# Altium schematic symbol library Indutor.SchLib: 34 symbols
Pins are listed as number, name and electrical type; pins without a type are passive.

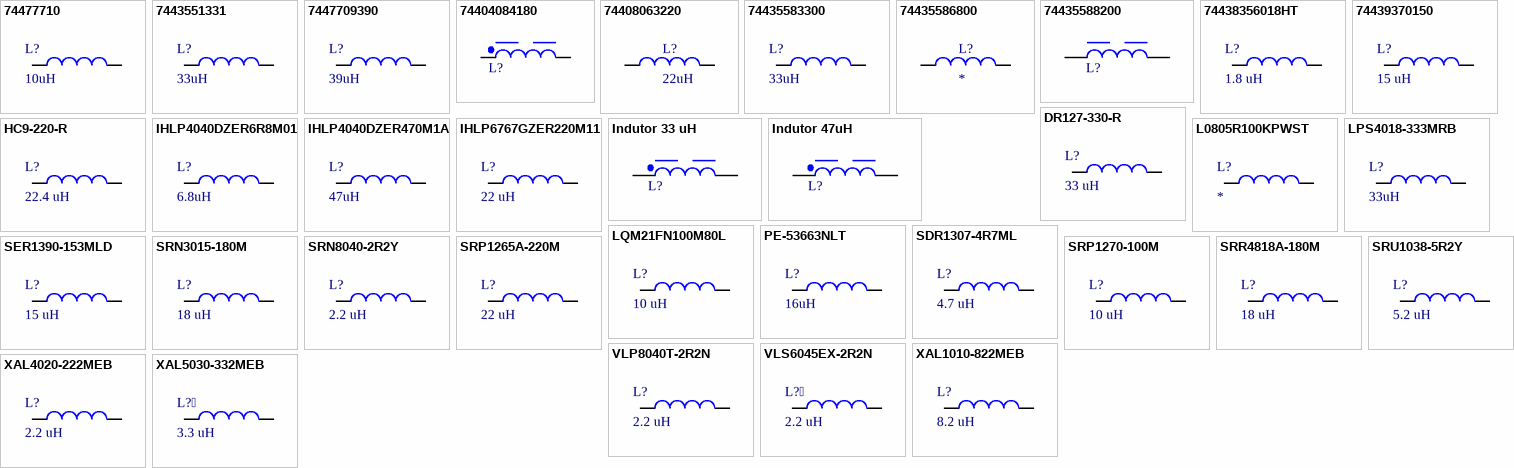
[diagram p0: symbols 74477710 to XAL5030-332MEB]

## 74477710
designator L?, comment 10uH
IND FIXED 10uH 2A 49mOHM; Manufacturer: Wurth Elektronik; Part Number: 74477710; Current Rating (Amps): 2; DC Resistance (DCR): 49 mOHMs; Frequency - Self Resonant: 26 MHz; Inductance Frequency - Test: 1kHz; Material - Core: Ferrite; Shielding: Shielded; ToleranceParameter 21: 20%; Type: Wirewound; Library Control - Checked Footprint: no; Category: Fixed Inductors; Library Ref: Inductor; Operating Temperature: -40C to +125C; Package / Case: 7.3 mm x 7.3 mm; Price: 1=2,44; 10=2,18; 100=1,95. (USD); Q @ Freq: -; Size / Dimension: 7.3mm x 7.3mm x 4.5mm (LxWxH); Supplier 1: mouser; Supplier Part Number 1: 710-74477710; Value: 10uH; Library Control - Last Project that Used: -; Library Control - Last Update: 06/06/2021 - 16:00; Library Control - Person that Checked Footprint: no; Library Control - Person that Checked Schematic: no; Library Control - Person that did the Last Update Footprint: no; Library Control - Person that did the Last Update Schematic: no; ComponentLink1Description: Datasheet; ComponentLink1URL: https://br.mouser.com/datasheet/2/445/74477710-1722886.pdf; ComponentLink2Description: Mouser link; ComponentLink2URL: https://br.mouser.com/ProductDetail/Wurth-Elektronik/74477710?qs=%2Fha2pyFadug%2FIiObFAT6jf1YalNNHp3LEEd6ZgRT95NN2CU3YglpQQ%3D%3D
footprint 7.3mm x 7.3mm
pins: 1, 2

## 7443551331
designator L?, comment 33uH
IND FIXED 33uH 5.5A 30.5 mOHM; Manufacturer: Wurth Elektronik; Part Number: 7443551331; DC Resistance (DCR): 30.5 mOHMs; Frequency - Self Resonant: 11 MHz; Inductance Frequency - Test: 1kHz; Material - Core: Ferrite; Shielding: Shielded; ToleranceParameter 21: 20%; Type: Wirewound; Category: Fixed Inductors; Current Rating (Amps): 5.5 A; Library Ref: Inductor; Operating Temperature: -40C to +125C; Package / Case: 2212; Price: 1=2,44; 10=2,18; 100=1,95. (USD); Q @ Freq: -; Size / Dimension: 7.3mm x 7.3mm x 4.5mm (LxWxH); Supplier 1: Mouser; Supplier Part Number 1: 710-7443551331; Value: 33uH; ComponentLink1Description: Datasheet; ComponentLink2Description: Mouser link; ComponentLink2URL: https://br.mouser.com/ProductDetail/Wurth-Elektronik/7443551331?qs=DCWoJ8jJgHt6VQeuWIfLZw%3D%3D; ComponentLink3Description: Datasheet; ComponentLink3URL: https://br.mouser.com/datasheet/2/445/7443551331-1721544.pdf
footprint 7443551331
pins: 1, 2

## 7447709390
designator L?, comment 39uH
IND FIXED 39uh 4.1A 56MOHM; Manufacturer: Wurth Elektronik; Part Number: 7447709390; DC Resistance (DCR): 56 mOhms; Frequency - Self Resonant: 6MH; Inductance Frequency - Test: 1 kHz; Material - Core: Ferrite; Shielding: Shielded; Category: Indutor de potência; Current Rating (Amps): 4.1 A; Library Ref: Indutores; Operating Temperature: -40 to 125°C; Package / Case: *; Packaging: *; Price: 1 = 2.57 USD, 10 = 2.35 USD, 25 = 2,34 USD; Q @ Freq: *; Size / Dimension: 12 mm x 12 mm; Supplier 1: Mouser; Supplier Part Number 1: 710-7447709390; ToleranceParameter 21: *; Type: *; Value: 39uH; Library Control - Checked Footprint: *; Library Control - Last Project that Used: *; Library Control - Last Update: *; Library Control - Person that Checked Footprint: *; Library Control - Person that Checked Schematic: *; Library Control - Person that did the Last Update Footprint: *; Library Control - Person that did the Last Update Schematic: *; ComponentLink1Description: Mouser Link; ComponentLink1URL: https://br.mouser.com/ProductDetail/Wurth-Elektronik/7447709390?qs=E%2F%2FhvbtCqpN%2FWTQofvvUSA%3D%3D; ComponentLink2Description: Datasheet; ComponentLink2URL: https://br.mouser.com/datasheet/2/445/7447709390-1722407.pdf
footprint WE-PD_1260/1245/1280/121054
pins: 1, 2

## 74404084180
designator L?, comment 18uH, 2.4A  (value not drawn)
WE-LQS SMT Power Inductor, size 8040, 18uH, 2.4A, 0.053Ohm; Manufacturer Part Number: 74404084180; Manufacturer: Wurth Elektronik; Case/Size Code: 8040; Saturation Current: 3.2A; Self Resonant Frequency: 16.5MHz; Category: Power Inductors; Match Code: WE-LQS; ComponentLink1Description: Website Link; ComponentLink1URL: https://www.we-online.com/redexpert/article/74404084180?ad; ComponentLink2Description: Datasheet Link; ComponentLink2URL: https://www.we-online.com/redexpert/spec/74404084180?ad; Mount: Surface Mount; Operating Temperature Max: 125°C; Operating Temperature Min: -40°C; Packaging: Tape and Reel; Length: 8mm; Width: 8mm; Height: 4.2mm; DC Resistance: 0.053Ohm; Inductance: 18uH; Rated Current: 2.4A
footprint WE-LQS_8040
simulation model 8040_74404084180_18u
pins: 1, 2

## 74408063220
designator L?, comment 22uH
IND FIXED 22uH 1A 220mOHM; Manufacturer: Wurth Electronics; Manufacturer Part Number: 74408063220; Self Resonant Frequency: 18MHz; Tolerance: 20%; Supplier: Mouser; Supplier Part Number: 710-74408063220; RoHS: No; Category: Fixed Inductors; Stock: 1480; Pricing: 1=1,53, 10=1,47, 50=1,41, 100=1,29, 1000=0,88, 10000=0,88 (USD); ComponentLink1Description: Mouser; ComponentLink1URL: https://br.mouser.com/ProductDetail/Wurth-Elektronik/74408063220?qs=rQFj71Wb1eUk4wES2Hgz2Q%3D%3D; ComponentLink2Description: Datasheet; ComponentLink2URL: https://www.we-online.com/components/products/datasheet/74408063220.pdf; Min Operating Temperature: - 40 C; Max Operating Temperature: + 150 C; Length: 5.9mm; Width: 5.9mm; Height: 2.85mm
footprint 74408063220 (Precision Wire Wound Inductor, 2-Leads, Body 5,90x5,90mm, IPC Medium Density)
pins: 1, 2

## 74435583300
designator L?, comment 33uH
IND FIXED 33uH 11.5A 13.2mOHM; Manufacturer: Wurth Elektronik; Part Number: 74435583300; DC Resistance (DCR): 13.2 mOHMs; Frequency - Self Resonant: 6.8 MHz; Inductance Frequency - Test: 1kHz; Material - Core: Ferrite; Shielding: Shielded; ToleranceParameter 21: 20%; Type: Wirewound; Category: Fixed Inductors; Current Rating (Amps): 11.5 A; Library Ref: Inductor; Operating Temperature: -40C to +125C; Package / Case: 2212; Price: 1=2,44; 10=2,18; 100=1,95. (USD); Q @ Freq: -; Size / Dimension: 7.3mm x 7.3mm x 4.5mm (LxWxH); Supplier 1: Mouser; Supplier Part Number 1: 710-74477710; Value: 33uH; ComponentLink1Description: Datasheet; ComponentLink2Description: Mouser link; ComponentLink2URL: https://br.mouser.com/ProductDetail/Wurth-Elektronik/74435583300?qs=BXmE%252BJ0Y7xZq0XIyjXqmfw%3D%3D; ComponentLink3Description: Datasheet; ComponentLink3URL: https://br.mouser.com/datasheet/2/445/74435583300-1721625.pdf
footprint 74435583300
pins: 1, 2

## 74435586800
designator L?
IND FIXED 68uH 7.5A 27.3mOHM; Manufacturer: Wurth Electronics; Manufacturer Part Number: 74435586800; Description: General Purpose Inductor, 68uH, 20%, 1 Element, SMD, 8987; Tolerance: 20%; DC Resistance (DCR): 27.3mR; Inductor Application: HIGH CURRENT INDUCTOR; Inductor Type: GENERAL PURPOSE INDUCTOR; Channels: 1; Shape/Size Description: RECTANGULAR PACKAGE; Shielding: Unshielded; Case/Size Code: 8987; Self Resonant Frequency: 5MHz; Test Frequency: 100kHz; Supplier: Digikey; Supplier Part Number: 732-4240-1-ND; RoHS: Yes; Category: Fixed Inductors; Stock: 1609; Pricing: 1=7,34, 10=7,2, 50=6,37 (USD); Pins: 2; Min Operating Temperature: -40°C; Max Operating Temperature: 125°C; Inductance-Nom (L): 68uH; Manufacturer Series: 74435586800; Package Style: SMTMeter; Max Current Rating: 7.5A; Surface Mount: Yes; Terminal Placement: Dual Ended; Termination: Wraparound; Reach SVHC Compliant: Yes; RoHS Compliant: Yes; ComponentLink1URL: https://datasheet.ciiva.com:443/pdfs/VipMasterIC/IC/MIDC/MIDC-S-A0008052226/MIDC-S-A0007982573-1.pdf?src-supplier=IHS+Markit; ComponentLink1Description: https://datasheet.ciiva.com:443/pdfs/VipMasterIC/IC/MIDC/MIDC-S-A0008052226/MIDC-S-A0007982573-1.pdf?src-supplier=IHS+Markit; ComponentLink2URL: https://datasheet.ciiva.com/6699/74435586800-6699792.pdf?src-supplier=Digikey; ComponentLink2Description: https://datasheet.ciiva.com/6699/74435586800-6699792.pdf?src-supplier=Digikey; ComponentLink3URL: https://datasheet.ciiva.com/23782/1668079-23782520.pdf?src-supplier=Newark; ComponentLink3Description: https://datasheet.ciiva.com/23782/1668079-23782520.pdf?src-supplier=Newark; ComponentLink4URL: https://datasheet.ciiva.com/25607/0900766b811a4283-25607349.pdf?src-supplier=Rs; ComponentLink4Description: https://datasheet.ciiva.com/25607/0900766b811a4283-25607349.pdf?src-supplier=Rs; ComponentLink5URL: https://datasheet.ciiva.com/7765/1735789-7765137.pdf?src-supplier=Element14; ComponentLink5Description: https://datasheet.ciiva.com/7765/1735789-7765137.pdf?src-supplier=Element14; ComponentLink6URL: https://datasheet.ciiva.com/13276/74435586800-13276988.pdf?src-supplier=Mouser; ComponentLink6Description: https://datasheet.ciiva.com/13276/74435586800-13276988.pdf?src-supplier=Mouser; ComponentLink7URL: https://datasheet.ciiva.com/26308/74435586800-eng-tds-26308619.pdf?src-supplier=Distrelec; ComponentLink7Description: https://datasheet.ciiva.com/26308/74435586800-eng-tds-26308619.pdf?src-supplier=Distrelec
footprint WE-HCI_2212 (SMT Flat Wire High Current Inductor, body 22x22.5mm)
pins: 1, 2

## 74435588200
designator L?, comment 82µH, 6.6A  (value not drawn)
WE-HCI SMT Flat Wire High Current Inductor, size 2212, 82µH, 6.6A, 30.4mΩ; Manufacturer Part Number: 74435588200; Manufacturer: Wurth Elektronik; Case/Size Code: 2212; Material: MnZn; Saturation Current: 8.5A; Self Resonant Frequency: 4.4MHz; Category: Shielded Power Inductors; Match Code: WE-HCI; ComponentLink1Description: Website Link; ComponentLink1URL: https://www.we-online.com/redexpert/article/74435588200?ad; ComponentLink2Description: Datasheet Link; ComponentLink2URL: https://www.we-online.com/redexpert/spec/74435588200?ad; Mount: Surface Mount; Operating Temperature Max: 125°C; Operating Temperature Min: -40°C; Packaging: Tape and Reel; Length: 22mm; Width: 22.5mm; Height: 12mm; DC Resistance: 30.4mΩ; Inductance: 82µH; Performance Rated Current: 6.6A
footprint WE-HCI_2212
simulation model 2212_74435588200_82u
pins: 1, 2

## 74438356018HT
designator L?, comment 1.8 uH
IND FIXED 1.8uH 4.6A 29.9mOHM; Manufacturer: Wurth Elektronik; Part Number: 74438356018HT; DC Resistance (DCR): 29.9 mOhms; Frequency - Self Resonant: 37.5 MHz; Inductance Frequency - Test: 100kHz; Material - Core: Magnetic Iron Alloy Core; Shielding: Shielded; Tolerance: 20%; Library Control - Checked Footprint: Yes; Library Control - Person that Checked Footprint: Stéfany (Ster); Library Control - Person that did the Last Update Footprint: Maria Laura; Category: Fixed Inductors; Current Rating (Amps): 4.6A; Library Ref: Inductor; Operating Temperature: -55°C~150°C; Package / Case: 4020; Price: 1=2,03, 10=1,84 100 = 1,69 (USD); Q @ Freq: -; Size / Dimension: 4,1 L x 4,1 W x 2,1 H (mm); Supplier 1: Mouser; Supplier Part Number 1: 710-74438356018HT; Type: Fixed; Value: 1.8 uH; Library Control - Last Project that Used: -; Library Control - Last Update: 18/07/2021 15:26; Library Control - Person that Checked Schematic: Stéfany (Ster); Library Control - Person that did the Last Update Schematic: Maria Laura; ComponentLink1Description: Datasheet; ComponentLink1URL: https://br.mouser.com/datasheet/2/445/74438356018HT-1759656.pdf; ComponentLink2Description: Mouser Link; ComponentLink2URL: https://br.mouser.com/ProductDetail/Wurth-Elektronik/74438356018HT?qs=YwPsRIUVAOd%2FxZngiNnH6Q%3D%3D
footprint 4,1MM X 4,1MM (Inductor)
pins: 1, 2

## 74439370150
designator L?, comment 15 uH
IND FIXED 15uH 10A 11.3mOHM; Manufacturer: Wurth Elektronik; Part Number: 74439370150; Frequency - Self Resonant: 7 MHz; Inductance Frequency - Test: 100 kHz; Material - Core: Metal Composite; Shielding: Shielded; ToleranceParameter 21: 20%; Type: Wirewound; Library Control - Checked Footprint: Yes; Library Control - Person that Checked Footprint: Pierre; Library Control - Person that did the Last Update Footprint: no; Category: Fixed Inductors; Current Rating (Amps): 10 A; DC Resistance (DCR): 11.3 mOHM; Library Ref: Inductor; Operating Temperature: -40C ~ +125C; Package / Case: SMD/SMT; Price: 1=6,77000, 50=6,16000, 100=4,57000 (USD); Q @ Freq: -; Size / Dimension: 16.4mm x 15.4mm x 10mm (LxWxH); Supplier 1: Mouser; Supplier Part Number 1: 710-74439370150; Value: 15 uH; Library Control - Last Project that Used: -; Library Control - Last Update: 22/06/2021  - 18:15; Library Control - Person that Checked Schematic: Pierre; Library Control - Person that did the Last Update Schematic: no; ComponentLink1Description: Datasheet; ComponentLink1URL: https://br.mouser.com/datasheet/2/445/74439370150-1721936.pdf; ComponentLink2Description: Mouser link; ComponentLink2URL: https://br.mouser.com/ProductDetail/Wurth-Elektronik/74439370150/?qs=%2Fha2pyFadugkr4QWgN4ssLJ1UxIZieGfMEENVnKExILNH5syg3lpmg%3D%3D
footprint 16.4mm x 16.4mm
pins: 1, 2

## DR127-330-R
designator L?, comment 33 uH
IND FIXED 33uH 3.23A 60mOHM; Manufacturer: Eaton; Part Number: DR127-330-R; DC Resistance (DCR): 60 mOhms; Inductance Frequency - Test: 100 kHz; Material - Core: Ferrite; Shielding: Shielded; Tolerance: 20 %; Library Control - Checked Footprint: Yes; Library Control - Person that Checked Footprint: Raquel; Library Control - Person that did the Last Update Footprint: Dimas; Category: Fixed Inductors; Current Rating (Amps): 3.23 A; Frequency - Self Resonant: -; Library Ref: Inductor; Operating Temperature: - 40C ~ 125C; Package / Case: SMD/SMT; Price: 1=1,28, 10=0,96, 100=0,911 (USD); Q @ Freq: -; Size / Dimension: 12.5 mm x  12.5 mm x 8 mm; Supplier 1: Mouser; Supplier Part Number 1: 704-DR127-330-R; Type: Fixed; Value: 33 uH; Library Control - Last Project that Used: -; Library Control - Last Update: 16/06/21; Library Control - Person that Checked Schematic: Raquel; Library Control - Person that did the Last Update Schematic: Dimas; ComponentLink1Description: Datasheet; ComponentLink1URL: https://br.mouser.com/datasheet/2/87/eaton-dr-high-power-density-high-efficiency-shield-1608690.pdf; ComponentLink2Description: Mouser Link; ComponentLink2URL: https://br.mouser.com/ProductDetail/Coiltronics-Eaton/DR127-330-R?qs=%2Fha2pyFaduibyE8ijV25CzFnVpHY77HB7JSH9AQHtlPBOlouqoTMaA%3D%3D
footprint DR127
pins: 1, 2

## HC9-220-R
designator L?, comment 22.4 uH
IND FIXED 22uh 6.3A 25.7MOHM; Manufacturer: Eaton; Part Number: HC9-220-R; DC Resistance (DCR): 25.7 mOhms; Inductance Frequency - Test: 100kHz; Material - Core: Iron Powder; Shielding: Unshielded; Tolerance: 15 %; Library Control - Checked Footprint: Yes; Library Control - Person that Checked Footprint: Pierre; Library Control - Person that did the Last Update Schematic: Dimas; Category: Fixed Inductors; Current Rating (Amps): 6.3 A; Frequency - Self Resonant: -; Library Ref: Inductor; Operating Temperature: - 40 C ~ 155 C; Package / Case: SMD/SMT; Price: 1=3,89000, 10=2,90000, 100=2,56000 (USD); Q @ Freq: -; Size / Dimension: 14.1 mm x  13.1 mm x 7.5 mm; Supplier 1: Mouser; Supplier Part Number 1: 704-HC9-220-R; Type: Fixed; Value: 22.4 uH; Library Control - Last Project that Used: -; Library Control - Last Update: 22/06/2021 18:10; Library Control - Person that Checked Schematic: Pierre; Library Control - Person that did the Last Update Footprint: -; ComponentLink1Description: Datasheet; ComponentLink1URL: https://br.mouser.com/datasheet/2/87/eaton-hc9-high-current-power-inductors-data-sheet-1608634.pdf; ComponentLink2Description: Mouser Link; ComponentLink2URL: https://br.mouser.com/ProductDetail/Coiltronics-Eaton/HC9-220-R/?qs=%2Fha2pyFaduhYBM4C2c7hGbAv%2FTYfQVRGGe9o6YFSKrY%3D
footprint HC9 (Precision Wire Wound Inductor, 2-Leads, Body 13.10x13.40mm, IPC Medium Density)
pins: 1, 2

## IHLP4040DZER6R8M01
designator L?, comment 6.8uH
IND FIXED 6.8uH 8A 23.3 mOhms; Manufacturer: Vishay / Dale; Part Number: IHLP4040DZER6R8M01; Inductance Frequency - Test: 1 MHz; Material - Core: Composite; Shielding: Shielded; Tolerance: 20%; Type: Molded; Library Control - Checked Footprint: Yes; Library Control - Person that Checked Footprint: Tico Liro; Category: Fixed Inductors; Current Rating (Amps): 8A; DC Resistance (DCR): 23.3mOhms; Frequency - Self Resonant: -; Library Ref: Inductor; Operating Temperature: - 55 C ~ 125 C; Package / Case: SMD/SMT; Price: 1=1.56, 100=1.05 (USD); Q @ Freq: -; Size / Dimension: 10.16mm x 10.16mm x 4mm; Supplier 1: Mouser; Supplier Part Number 1: 70-IHLP4040DZER6R8M0; Value: 6.8uH; Library Control - Last Project that Used: -; Library Control - Last Update: 27/09/2021; Library Control - Person that Checked Schematic: Tico Liro; Library Control - Person that did the Last Update Footprint: -; Library Control - Person that did the Last Update Schematic: Tico Liro; ComponentLink1Description: Datasheet; ComponentLink1URL: https://br.mouser.com/datasheet/2/427/VISH_S_A0011038663_1-2571620.pdf; ComponentLink2Description: Mouser Link; ComponentLink2URL: https://br.mouser.com/ProductDetail/Vishay-Dale/IHLP4040DZER6R8M01?qs=%2Fha2pyFaduhfnAszweRolDz7r1EvsmKDTyT9A7im0paT%2F5HtU9HVrS3OHYnypq%252BO
footprint 10.16mm x 10.16mm (Precision Wire Wound Inductor, 2-Leads, Body 10,15x10,15mm, IPC Medium Density)
pins: 1, 2

## IHLP4040DZER470M1A
designator L?, comment 47uH
IND FIXED 47uh 3.3A 145MOHM; Manufacturer: Vishay; Part Number: IHLP4040DZER470M1A; DC Resistance (DCR): 145 mOhms; Inductance Frequency - Test: 100 kHz; Material - Core: Composite; Shielding: Shielded construction; Tolerance: 20%; Library Control - Person that did the Last Update Schematic: Dimas; Category: Fixed Inductors; Current Rating (Amps): 3.3 A; Frequency - Self Resonant: -; Library Ref: Inductor; Operating Temperature: - 55 C ~ 125 C; Package / Case: SMD/SMT; Price: 1=2,17, 10=1,82, 100=1,25 (USD); Q @ Freq: -; Size / Dimension: 10.16 mm x 10.16 mm x 4 mm; Supplier 1: Mouser; Supplier Part Number 1: 70-IHLP4040DZR470M1A; Type: Fixed; Value: 47uH; Library Control - Checked Footprint: -; Library Control - Last Project that Used: -; Library Control - Last Update: 05/06/2021 17:30; Library Control - Person that Checked Footprint: -; Library Control - Person that Checked Schematic: -; Library Control - Person that did the Last Update Footprint: *; ComponentLink1Description: Mouser Link; ComponentLink1URL: https://br.mouser.com/ProductDetail/Vishay-Dale/IHLP4040DZER470M1A?qs=ESCNxI3zhROX81TVptwlzQ%3D%3D; ComponentLink2Description: Datasheet; ComponentLink2URL: https://br.mouser.com/datasheet/2/427/lp40dz1a-1762908.pdf
footprint IHLP4040
pins: 1, 2

## IHLP6767GZER220M11
designator L?, comment 22 uH
IND FIXED 22uH 12A 20MOHM; Manufacturer: Vishay / Dale; Part Number: IHLP6767GZER220M11; DC Resistance (DCR): 20 mOhms; Frequency - Self Resonant: 4.3 MHz; Inductance Frequency - Test: 100 kHz; Material - Core: Composite; Shielding: Shielded; Type: Wirewound; Category: Fixed Inductors; Current Rating (Amps): 12 A; Library Ref: Inductor; Operating Temperature: -55C ~ +125C; Package / Case: 17.15 mm x 7 mm x 17.15 mm; Price: 1= 3,73, 10= 2,86, 100= 2,45 (USD); Q @ Freq: -; Size / Dimension: 17.5mm x 17.5mm x 7mm (LxWxH); Supplier 1: Mouser; Supplier Part Number 1: 70-IHLP6767GZER220M1; Value: 22 uH; Library Control - Checked Footprint: *; Library Control - Last Project that Used: *; Library Control - Last Update: *; Library Control - Person that Checked Footprint: *; Library Control - Person that Checked Schematic: *; Library Control - Person that did the Last Update Footprint: *; Library Control - Person that did the Last Update Schematic: *; ComponentLink1Description: Mouser Link; ComponentLink1URL: https://br.mouser.com/ProductDetail/Vishay-Dale/IHLP6767GZER220M11?qs=%2Fha2pyFadug37ZxLzQMB%252BpPgol1t36S5jOejw2tNlGIg39T7DOsZrkYQUDnK%2F%252Bmq; ComponentLink2Description: Datasheet; ComponentLink2URL: https://br.mouser.com/datasheet/2/427/ihlp-6767gz-11-1763084.pdf
footprint INDP171172X70N (Precision Wire Wound Inductor, 2-Leads, Body 17,13x17,15mm, IPC Medium Density)
pins: 1, 2

## Indutor 33 uH
designator L?, comment 33uH, 2.5A  (value not drawn)
WE-PD SMT Power Inductor, size 1050P, 33uH, 2.5A, 79mOhm; Manufacturer Part Number: 7447714330; Manufacturer: Wurth Elektronik; DC Resistance: 66mOhm; Saturation Current: 2.9A; Self Resonant Frequency: 11.1MHz; Type: Performance; Category: Power Inductors; Match Code: WE-PD; ComponentLink1Description: Website Link; ComponentLink1URL: https://www.we-online.com/redexpert/article/7447714330?ad; ComponentLink2Description: Datasheet Link; ComponentLink2URL: https://www.we-online.com/redexpert/spec/7447714330?ad; Mount: Surface Mount; Operating Temperature Max: 150°C; Operating Temperature Min: -40°C; Packaging: Tape and Reel; Case/Size Code: 1050P; Length: 10mm; Width: 10mm; Height: 5mm; DC Resistance Max: 79mOhm; Inductance: 33uH; Rated Current: 2.5A
footprint WE-PD_1050P
pins: 1, 2

## Indutor 47uH
designator L?, comment 47uH, 1.2A  (value not drawn)
WE-PD SMT Power Inductor, size 1030P, 47uH, 1.2A, 248mOhm; Manufacturer Part Number: 7447713470; Manufacturer: Wurth Elektronik; DC Resistance: 207mOhm; Saturation Current: 1.9A; Self Resonant Frequency: 11.4MHz; Type: Performance; Category: Power Inductors; Match Code: WE-PD; ComponentLink1Description: Website Link; ComponentLink1URL: https://www.we-online.com/redexpert/article/7447713470?ad; ComponentLink2Description: Datasheet Link; ComponentLink2URL: https://www.we-online.com/redexpert/spec/7447713470?ad; Mount: Surface Mount; Operating Temperature Max: 150°C; Operating Temperature Min: -40°C; Packaging: Tape and Reel; Case/Size Code: 1030P; Length: 10mm; Width: 10mm; Height: 3mm; DC Resistance Max: 248mOhm; Inductance: 47uH; Rated Current: 1.2A
footprint I_1030P (SMD Shielded Power Inductor, 2-leads, body 10x10mm)
pins: 1, 2

## L0805R100KPWST
designator L?
IND FIXED V 10uH 100mA 500 mOhms; Manufacturer: KEMET; Part Number: L0805R100KPWST; Frequency - Self Resonant: 32 MHz; Inductance Frequency - Test: 2.52 MHz; Shielding: Shielded; ToleranceParameter 21: 10%; Type: Wirewound; Library Control - Checked Footprint: Yes; Library Control - Person that Checked Footprint: Cage; Library Control - Person that did the Last Update Footprint: Lazanha; Category: Fixed Inductors; Current Rating (Amps): 100 mA; DC Resistance (DCR): 500 mOhms; Library Ref: Inductor; Material - Core: *; Operating Temperature: -40°C ~+105°C; Package / Case: 0805 (2012 metric); Price: 1=0.25, 10=0.166, 100=0.139 (USD); Q @ Freq: -; Size / Dimension: 2mm x 1.25mm x 1.25mm; Supplier 1: Mouser; Supplier Part Number 1: 80-L0805R100KPWST; Value: *; Library Control - Last Project that Used: Yes; Library Control - Last Update: 14/08/2022; Library Control - Person that Checked Schematic: Cage; Library Control - Person that did the Last Update Schematic: Cage; ComponentLink1Description: Mouser; ComponentLink1URL: https://br.mouser.com/ProductDetail/KEMET/L0805R100KPWST?qs=e0j0OS9oV9oaMJcS95taDg%3D%3D; ComponentLink2Description: Datasheet; ComponentLink2URL: https://br.mouser.com/datasheet/2/212/F3115-1104303.pdf
footprint 0805in (2012mm) (Chip Inductor, 2-Leads, Body 2,00x1,25mm, IPC Medium Density)
pins: 1, 2

## LPS4018-333MRB
designator L?, comment 33uH
IND FIXED 33uH 800mA 420mOHM; Manufacturer: Coilcraft; Part Number: LPS4018-333MRB; Frequency - Self Resonant: 20MHz; Inductance Frequency - Test: 100kHz; Material - Core: Ferrite; Shielding: Shielded; ToleranceParameter 21: 20%; Type: Core Drum; Library Control - Checked Footprint: no; Category: Fixed Inductors; Current Rating (Amps): 800 mA; DC Resistance (DCR): 420 mOHM; Library Ref: Inductor; Operating Temperature: -40C to +125C; Package / Case: 1515 (4040 metric); Price: 1=1,08; 10=0,904; 50=0,89. (USD); Q @ Freq: -; Size / Dimension: 4mm x 4mm x 1.8mm (LxWxH); Supplier 1: mouser; Supplier Part Number 1: 994-LPS4018-333MRB; Value: 33uH; Library Control - Last Project that Used: -; Library Control - Last Update: 06/06/2021 - 17:00; Library Control - Person that Checked Footprint: no; Library Control - Person that Checked Schematic: no; Library Control - Person that did the Last Update Footprint: no; Library Control - Person that did the Last Update Schematic: no; ComponentLink1Description: Datasheet; ComponentLink1URL: https://br.mouser.com/datasheet/2/597/lps4018-270702.pdf; ComponentLink2Description: Mouser link; ComponentLink2URL: https://br.mouser.com/ProductDetail/Coilcraft/LPS4018-333MRB/?qs=%2Fha2pyFaduhCRNUHDL7ZiqyXTJbo4ywUXgs7BQe9sCWogmbxCa86r%2FlcVeZGQbil
footprint 1515 (4040 metric)
pins: 1, 2

## LQM21FN100M80L
designator L?, comment 10 uH
IND FIXED 10uH 100mA 300mOHM; Manufacturer: Murata; Part Number: LQM21FN100M80L; Current Rating (Amps): 100m; Frequency - Self Resonant: 15MHz; Inductance Frequency - Test: 1MHz; Material - Core: Ferrite; Shielding: Shielded; ToleranceParameter 21: 20%; Type: Multilayer; Library Control - Checked Footprint: Yes; Library Control - Person that Checked Footprint: Raquel; Library Control - Person that did the Last Update Footprint: Lucas; Category: Fixed Inductors; DC Resistance (DCR): 300m OHM; Library Ref: Inductor; Operating Temperature: -55C ~ 125C; Package / Case: 0805in (2012mm); Price: 1=0,19; 10=0,168; 100=0,112. (USD); Q @ Freq: -; Size / Dimension: 2mm x 1.25mm x 1.25mm (LxWxH); Supplier 1: Mouser; Supplier Part Number 1: 81-LQM21FN100M80L; Value: 10 uH; Library Control - Last Project that Used: -; Library Control - Last Update: 16/06/21; Library Control - Person that Checked Schematic: Raquel; Library Control - Person that did the Last Update Schematic: Lucas; ComponentLink1Description: Datasheet; ComponentLink1URL: https://br.mouser.com/datasheet/2/281/JELF243B-0017-1699577.pdf; ComponentLink2Description: Mouser link; ComponentLink2URL: https://br.mouser.com/ProductDetail/Murata-Electronics/LQM21FN100M80L?qs=sGAEpiMZZMsg%252By3WlYCkU9oBvn8kICtv4tmZpaHyey8%3D
footprint 0805in (2012mm)
pins: 1, 2

## PE-53663NLT
designator L?, comment 16uH
IND FIXED 16uH 7.2A 18.7 mOhms; Manufacturer: Pulse Electronics; Part Number: PE-53663NLT; Inductance Frequency - Test: 1 MHz; Material - Core: Composite; Shielding: Shielded; Tolerance: 20%; Type: Molded; Library Control - Checked Footprint: Yes; Library Control - Person that Checked Footprint: Tico Liro; Category: Fixed Inductors; Current Rating (Amps): 7.2A; DC Resistance (DCR): 18.7 mOhms; Frequency - Self Resonant: -; Library Ref: Inductor; Operating Temperature: - 40 C ~ 130 C; Package / Case: SMD/SMT; Price: 1=2,57, 100=2.16 (USD); Q @ Freq: -; Size / Dimension: 17,78mm x 17,02mm x 9x91mm; Supplier 1: Mouser; Supplier Part Number 1: 673-PE-53663NLT; Value: 16uH; Library Control - Last Project that Used: -; Library Control - Last Update: 27/09/2021; Library Control - Person that Checked Schematic: Tico Liro; Library Control - Person that did the Last Update Footprint: -; Library Control - Person that did the Last Update Schematic: Tico Liro; ComponentLink1Description: Datasheet; ComponentLink1URL: https://br.mouser.com/datasheet/2/336/SPM2007_44-1527070.pdf; ComponentLink2Description: Mouser Link; ComponentLink2URL: https://br.mouser.com/ProductDetail/Pulse-Electronics/PE-53663NLT?qs=%2Fha2pyFaduiKnLi%252BxXX632ORpob8zCazFVNI6q96CX%2FHUHmZzctulw%3D%3D
footprint 17.78mm x 17.02mm x 9.91mm (Precision Wire Wound Inductor, 2-Leads, Body 17,01x17,78mm, IPC Medium Density)
pins: 1, 2

## SDR1307-4R7ML
designator L?, comment 4.7 uH
IND FIXED 4.7uH 7A 10 mOhms; Manufacturer: Bourns; Part Number: SDR1307-4R7ML; Frequency - Self Resonant: 36 MHz; Inductance Frequency - Test: 7.96 MHz; Material - Core: Ferrite; Q @ Freq: .; Shielding: Shielded; ToleranceParameter 21: 20%; Type: Wirewound; Library Control - Checked Footprint: Yes; Library Control - Person that Checked Footprint: Cage; Category: Fixed Inductor; Current Rating (Amps): 7 A; DC Resistance (DCR): 10 mOhms; Library Ref: Inductor; Operating Temperature: -40 C~+125 C; Package / Case: 7mm L x 13mm D; Price: 1=1.16,  10=0.865, 100=0.781 (USD); Size / Dimension: 7mm L x 13mm D; Supplier 1: Mouser; Supplier Part Number 1: 652-SDR1307-4R7ML; Value: 4.7 uH; Library Control - Last Project that Used: Yes; Library Control - Last Update: 27/08/2022; Library Control - Person that Checked Schematic: Cage; Library Control - Person that did the Last Update Footprint: Cage; Library Control - Person that did the Last Update Schematic: Cage; ComponentLink1Description: Mouser; ComponentLink1URL: https://br.mouser.com/ProductDetail/Bourns/SDR1307-4R7ML?qs=uD%2FoUDWqfvTph9Rfuyszgg%3D%3D; ComponentLink2Description: Datasheet; ComponentLink2URL: https://br.mouser.com/datasheet/2/54/sdr1307-1391244.pdf
footprint SDR1307-4R7ML
pins: 1, 2

## SER1390-153MLD
designator L?, comment 15 uH
IND FIXED 15uH 9.2A 15mOHM; Manufacturer: Coilcraft; Part Number: SER1390-153MLD; Frequency - Self Resonant: 24,3MHz; Inductance Frequency - Test: 100kHz; Material - Core: Ferrite; Shielding: Shielded; ToleranceParameter 21: 20%; Type: Fixed Inductors; Library Control - Last Project that Used: Fuijin-MK1; Library Control - Person that Checked Footprint: Guilherme; Category: Fixed Inductors; Current Rating (Amps): 9.2A; DC Resistance (DCR): 15 mOHM; Library Ref: Inductor; Operating Temperature: -40°C ~ 85°C; Package / Case: 12.7 mm x 9 mm x 12.6 mm; Price: 1=2,85, 10=2,54, 100=2,04 (USD); Q @ Freq: -; Size / Dimension: 13,7 mm L x 13,7 mm W x 7 mm H; Supplier 1: Mouser; Supplier Part Number 1: 994-SER1390-153MLD; Value: 15 uH; Library Control - Last Update: 31/10/21 16:55; Library Control - Person that Checked Schematic: Guilherme; Library Control - Person that did the Last Update Footprint: Guilherme; Library Control - Person that did the Last Update Schematic: Guilherme; ComponentLink1Description: Datasheet; ComponentLink1URL: https://br.mouser.com/ProductDetail/Coilcraft/SER1390-153MLD?qs=%2Fha2pyFaduhid6vbnMdLhouLl0l8EuZMad6E4Hshsfrl9tlr%2FPnIfQ%3D%3D; ComponentLink2Description: Mouser link; ComponentLink2URL: https://br.mouser.com/datasheet/2/597/ser1390-471319.pdf
footprint SER1390153MLB
pins: 1, 2

## SRN3015-180M
designator L?, comment 18 uH
IND FIXED 18uH 650mA 546mOHM; Manufacturer: Bourns; Part Number: SRN3015-180M; DC Resistance (DCR): 546mOhms; Frequency - Self Resonant: 30 MHz; Inductance Frequency - Test: 2.52 MHz; Material - Core: Ferrite; Shielding: Semi-Shielded; Tolerance: 20%; Library Control - Person that did the Last Update Footprint: Maria Laura; Category: Fixed Inductors; Current Rating (Amps): 650mA; Library Ref: Inductor; Operating Temperature: -40°C~125°C; Package / Case: 3015; Price: 1=0,51, 10=0,354 100 =0,318  (USD); Q @ Freq: -; Size / Dimension: 3,0 L x 3,0 W x 1,5 H (mm); Supplier 1: Mouser; Supplier Part Number 1: 652-SRN3015-180M; Type: Fixed; Value: 18 uH; Library Control - Last Project that Used: -; Library Control - Last Update: 09/09/2021 10:30; Library Control - Person that did the Last Update Schematic: Maria Laura; ComponentLink1Description: Datasheet; ComponentLink1URL: https://br.mouser.com/datasheet/2/54/srn3015-1391515.pdf; ComponentLink2Description: Mouser Link; ComponentLink2URL: https://br.mouser.com/ProductDetail/Bourns/SRN3015-180M?qs=opBjA1TV902azA9NHn1OBg%3D%3D
footprint 3MM X 3MM
pins: 1, 2

## SRN8040-2R2Y
designator L?, comment 2.2 uH
IND FIXED 2.2uH 6.3A 13mOHM; Manufacturer: Bourns; Part Number: SRN8040-2R2Y; DC Resistance (DCR): 13 mOhms; Frequency - Self Resonant: 40 MHz; Inductance Frequency - Test: 7.96 MHz; Material - Core: Ferrite; Q @ Freq: 13; Shielding: Semi - Shielded; Tolerance: 30%; Type: Wirewound; Library Control - Checked Footprint: No; Library Control - Person that did the Last Update Footprint: Marcos; Category: Fixed Inductors; Current Rating (Amps): 6.3A; Library Ref: Inductor; Operating Temperature: - 40 C ~ 105 C; Package / Case: 8 mm x 8 mm; Price: 1=0,78, 10=0,54 100 = 0,484 (USD); Size / Dimension: 8 mm L x 8 mm W x 4 mm H; Supplier 1: Mouser; Supplier Part Number 1: 652-SRN8040-2R2Y; Value: 2.2 uH; Library Control - Last Project that Used: -; Library Control - Last Update: 18/07/2021 15:26; Library Control - Person that Checked Footprint: -; Library Control - Person that Checked Schematic: -; Library Control - Person that did the Last Update Schematic: Marcos; ComponentLink1Description: Datasheet; ComponentLink1URL: https://www.mouser.com/datasheet/2/54/SRN8040-1391517.pdf; ComponentLink2Description: Mouser Link; ComponentLink2URL: https://www.mouser.com/ProductDetail/Bourns/SRN8040-2R2Y?qs=%2Fha2pyFadujHc60IgsuR%252BzZaoplVp2OUZxeFj6HEWw%252BOw5KyXJYiVA%3D%3D
footprint 8 mm x 8 mm
pins: 1, 2

## SRP1265A-220M
designator L?, comment 22 uH
IND FIXED 22uH 12A 37mOhm; Manufacturer: Bourns; Part Number: SRP1265A-220M; Frequency - Self Resonant: 6 MHz; Inductance Frequency - Test: 100 kHz; Material - Core: Ferrite; Shielding: Shielded; Tolerance: 20%; Type: Wirewound; Library Control - Checked Footprint: Pierre; Category: Fixed Inductors; Current Rating (Amps): 12 A; DC Resistance (DCR): 37 mOhm; Library Ref: Inductor; Operating Temperature: -40 C~150 C; Package / Case: 500 pcs. per 13-inch reel; Price: 1= 2,14, 10= 1,98, 25= 1,67 (USD); Q @ Freq: -; Size / Dimension: 13.5 x 12.5 x 6.2 (; Supplier 1: Mouser; Supplier Part Number 1: 652-SRP1265A-220M; Value: 22 uH; Library Control - Last Project that Used: *; Library Control - Last Update: 27/11/2021 - 00:30; Library Control - Person that Checked Footprint: *; Library Control - Person that Checked Schematic: *; Library Control - Person that did the Last Update Footprint: *; Library Control - Person that did the Last Update Schematic: *; ComponentLink1Description: Mouser Link; ComponentLink1URL: https://br.mouser.com/ProductDetail/Bourns/SRP1265A-220M?qs=7z%252BmIopC6%2FIUC8RczBuOGQ%3D%3D; ComponentLink2Description: Datasheet; ComponentLink2URL: https://br.mouser.com/datasheet/2/54/srp1265a-1391487.pdf
footprint 13.5mm x 12.5mm (Precision Wire Wound Inductor, 2-Leads, Body 13,50x12,50mm, IPC Medium Density)
pins: 1, 2

## SRP1270-100M
designator L?, comment 10 uH
IND FIXED 10uH 10A 16,8mOHM; Manufacturer: Bourns; Part Number: SRP1270-100M; Frequency - Self Resonant: 10MHz; Inductance Frequency - Test: 100kHz; Material - Core: Ferrite; Shielding: Shielded; ToleranceParameter 21: 20%; Type: Wirewound; Library Control - Checked Footprint: Yes; Library Control - Last Project that Used: Fuijin-MK1; Library Control - Person that Checked Footprint: Guilherme; Category: Fixed Inductors; Current Rating (Amps): 10A; DC Resistance (DCR): 16,8m OHM; Library Ref: Inductor; Operating Temperature: -55°C ~ 125°C; Package / Case: 400 pcs. per 13-inch reel; Price: 1=1,91, 10=1,61, 100=1,28 (USD); Q @ Freq: -; Size / Dimension: 13,7 mm L x 13,7 mm W x 7 mm H; Supplier 1: Mouser; Supplier Part Number 1: 652-SRP1270-100M; Value: 10 uH; Library Control - Last Update: 17/07/21 18:29; Library Control - Person that Checked Schematic: Guilherme; Library Control - Person that did the Last Update Footprint: Guilherme; Library Control - Person that did the Last Update Schematic: Guilherme; ComponentLink1Description: Datasheet; ComponentLink1URL: https://br.mouser.com/datasheet/2/54/srp1270-1391614.pdf; ComponentLink2Description: Mouser link; ComponentLink2URL: https://br.mouser.com/ProductDetail/Bourns/SRP1270-100M?qs=%2Fha2pyFaduh%252BcDExOxFZtaufPAivGDqQlURTk5Nj0oh1kF%2FmFcGIBA%3D%3D
footprint INDPM137137X700N
pins: 1, 2

## SRR4818A-180M
designator L?, comment 18 uH
IND FIXED 18uH 1.1A 280mOHM; Manufacturer: Bourns; Part Number: SRR4818A-180M; Frequency - Self Resonant: 28 MHz; Inductance Frequency - Test: 100 kHz; Material - Core: Ferrite; Shielding: Shielded; Tolerance: 20%; Library Control - Person that Checked Schematic: Stéfany (Ster); Library Control - Person that did the Last Update Footprint: Maria Laura; Category: Fixed Inductors; Current Rating (Amps): 1.1A; DC Resistance (DCR): 280mOhm; Library Ref: Inductor; Operating Temperature: -40°C~150°C; Package / Case: -; Price: 1=0,99 , 10=0,699 100 =0,62  (USD); Q @ Freq: -; Size / Dimension: 4,8 L x 4,8 W x 1,8 H (mm); Supplier 1: Mouser; Supplier Part Number 1: 652-SRR4818A-180M; Type: Fixed; Value: 18 uH; Library Control - Last Project that Used: -; Library Control - Last Update: 09/09/2021 14:52; Library Control - Person that did the Last Update Schematic: Maria Laura; ComponentLink1Description: Datasheet; ComponentLink1URL: https://www.mouser.com/datasheet/2/54/srr4818a-1391602.pdf; ComponentLink2Description: Mouser Link; ComponentLink2URL: https://www.mouser.com/ProductDetail/Bourns/SRR4818A-180M?qs=sGAEpiMZZMukHu%252BjC5l7YfEq5W2hefEsRxrJNhEkpD0%3D
footprint 4,8MM X 4,8MM
pins: 1, 2

## SRU1038-5R2Y
designator L?, comment 5.2 uH
IND FIXED 5.2nh 4.6A 22MOHM; Manufacturer: Bourns; Part Number: SRU1038-5R2Y; DC Resistance (DCR): 22 mOhms; Inductance Frequency - Test: 7.96 MHz; Material - Core: Ferrite; Q @ Freq: 12; Shielding: Shielded; Tolerance: 30 %; Library Control - Person that did the Last Update Schematic: Dimas; Category: Fixed Inductors; Current Rating (Amps): 4.6 A; Frequency - Self Resonant: *; Library Ref: Inductor; Operating Temperature: - 40 C ~ 125 C; Package / Case: SMD/SMT; Price: 1=0,83, 10=0,775, 100=0,641 (USD); Size / Dimension: 10 mm x  10 mm x 3.8 mm; Supplier 1: Mouser; Supplier Part Number 1: 652-SRU1038-5R2Y; Type: Fixed; Value: 5.2 uH; Library Control - Checked Footprint: -; Library Control - Last Project that Used: -; Library Control - Last Update: 05/06/2021 17:40; Library Control - Person that Checked Footprint: -; Library Control - Person that Checked Schematic: -; Library Control - Person that did the Last Update Footprint: -; ComponentLink1Description: Mouser Link; ComponentLink1URL: https://br.mouser.com/ProductDetail/Bourns/SRU1038-5R2Y/?qs=%2Fha2pyFaduga8qwkov01IzX7vPV0RIshneOsUsd3JO3E4aug1tv%2F4Q%3D%3D; ComponentLink2Description: Datasheet; ComponentLink2URL: https://br.mouser.com/datasheet/2/54/sru1038-1391493.pdf
footprint SRU1038
pins: 1, 2

## VLP8040T-2R2N
designator L?, comment 2.2 uH
IND FIXED 2.2uH 6.7A 15mOHM; Manufacturer: TDK; Part Number: VLP8040T-2R2N; DC Resistance (DCR): 15 mOhms; Inductance Frequency - Test: 100 kHz; Material - Core: Ferrite; Shielding: Shielded; Tolerance: 30 %; Library Control - Person that did the Last Update Footprint: Marcos; Category: Fixed Inductors; Current Rating (Amps): 6.7A; Frequency - Self Resonant: -; Library Ref: Inductor; Operating Temperature: - 40 C ~ 105 C; Package / Case: 8040; Price: -; Q @ Freq: -; Size / Dimension: 8 L x 8 W x 4 H; Supplier 1: Mouser; Supplier Part Number 1: 810-VLP8040T-2R2N; Type: Fixed; Value: 2.2 uH; Library Control - Checked Footprint: -; Library Control - Last Project that Used: -; Library Control - Last Update: 13/07/21 22:53; Library Control - Person that Checked Footprint: -; Library Control - Person that Checked Schematic: -; Library Control - Person that did the Last Update Schematic: Marcos; ComponentLink1Description: Datasheet; ComponentLink1URL: https://product.tdk.com/system/files/dam/doc/product/inductor/inductor/smd/wdcatalog/withdrawn_inductor_commercial_power_vlp8040_en.pdf; ComponentLink2Description: Mouser Link; ComponentLink2URL: https://www.mouser.com/ProductDetail/TDK/VLP8040T-2R2N?qs=%2Fha2pyFadujUn8qPLPKvcavqcoi26vh%252BjlZ6SGwD41rXOSQOX1Hrvw%3D%3D
footprint 8040
pins: 1, 2

## VLS6045EX-2R2N
designator L?, comment 2.2 uH
IND FIXED 2.2uH 7.5A 0.019OHM; Manufacturer: TDK; Part Number: VLS6045EX-2R2N; DC Resistance (DCR): 0.019; Inductance Frequency - Test: 100kHz; Material - Core: Ferrite; Shielding: Shielded; Tolerance: 30 %; Library Control - Person that did the Last Update Footprint: Marcos; Category: Fixed Inductors; Current Rating (Amps): 7.5A; Frequency - Self Resonant: -; Library Ref: Inductor; Operating Temperature: - 40C ~ 105C; Package / Case: SMD/SMT; Price: 1=0,50, 10=0,346, 100=0,312 1000 = 0,246 (USD); Q @ Freq: -; Size / Dimension: 6 mm x 6 mm x 4.5 mm; Supplier 1: Mouser; Supplier Part Number 1: 810-VLS6045EX-2R2N; Type: Fixed; Value: 2.2 uH; Library Control - Checked Footprint: -; Library Control - Last Project that Used: -; Library Control - Last Update: 10/11/21; Library Control - Person that Checked Footprint: -; Library Control - Person that Checked Schematic: -; Library Control - Person that did the Last Update Schematic: Marcos; ComponentLink1Description: Datasheet; ComponentLink1URL: https://product.tdk.com/system/files/dam/doc/product/inductor/inductor/smd/catalog/inductor_commercial_power_vls6045ex_en.pdf; ComponentLink2Description: Mouser Link; ComponentLink2URL: https://br.mouser.com/ProductDetail/?qs=oF%2FSscNnLpDwTZ5UbvivMw%3D%3D
footprint 6045 (Precision Wire Wound Inductor, 2-Leads, Body 6,00x6,00mm, IPC Medium Density)
pins: 1, 2

## XAL1010-822MEB
designator L?, comment 8.2 uH
IND FIXED 8.2uH 17.1A 12.9MOHM; Manufacturer: Coilcraft; Part Number: XAL1010-822MEB; DC Resistance (DCR): 12.9 mOhms; Inductance Frequency - Test: 1 MHz; Material - Core: Composite; Shielding: Shielded; Tolerance: 20%; Type: Molded; Library Control - Checked Footprint: Yes; Library Control - Person that Checked Footprint: Pierre; Library Control - Person that did the Last Update Schematic: Dimas; Category: Fixed Inductors; Current Rating (Amps): 17.1 A; Frequency - Self Resonant: -; Library Ref: Inductor; Operating Temperature: - 40 C ~ 125 C; Package / Case: SMD/SMT; Price: 1=5,25, 100=4,10 (USD); Q @ Freq: -; Size / Dimension: 11.3 mm x 10 mm x 10 mm; Supplier 1: Mouser; Supplier Part Number 1: 994-XAL1010-822MEB; Value: 8.2 uH; Library Control - Last Project that Used: -; Library Control - Last Update: 22/06/2021 17:50; Library Control - Person that Checked Schematic: Pierre; Library Control - Person that did the Last Update Footprint: -; ComponentLink1Description: Datasheet; ComponentLink1URL: https://br.mouser.com/datasheet/2/597/xal1010-270716.pdf; ComponentLink2Description: Mouser Link; ComponentLink2URL: https://br.mouser.com/ProductDetail/Coilcraft/XAL1010-822MEB/?qs=%2Fha2pyFaduijIA%2FMZQYdbyy6U3yLm%252By8Oe65Dh0Ezn9BpN1ENu%252Bw8RLs08wAH2Oj
footprint XAL1010
pins: 1, 2

## XAL4020-222MEB
designator L?, comment 2.2 uH
IND FIX 2.2uH Shld 20% 5.5A 38.7mOhms AECQ2; Manufacturer: Coilcraft; Part Number: XAL5030-332MEB; Inductance Frequency - Test: 1 MHz; Material - Core: Composite; Shielding: Shielded; Type: Fixed; Library Control - Checked Footprint: Yes; Library Control - Person that Checked Footprint: Nikaum; Category: Fixed Inductors; Current Rating (Amps): 5.5 A; DC Resistance (DCR): 38.7 mOhms; Frequency - Self Resonant: -; Library Ref: Inductor; Operating Temperature: - 40C ~ 125C; Package / Case: SMD/SMT; Price: 1=1,76, 10=1,75, 100=1,66 (USD); Q @ Freq: -; Size / Dimension: 4.3 mm x 4.3 mm x 2.1 mm; Supplier 1: Mouser; Supplier Part Number 1: 994-XAL4020-222MEB; Tolerance: 20 %; Value: 2.2 uH; Library Control - Last Project that Used: -; Library Control - Last Update: 07/10/2021 11:22; Library Control - Person that Checked Schematic: Nikaum; ComponentLink1Description: Datasheet; ComponentLink1URL: https://br.mouser.com/datasheet/2/597/xal50xx-270657.pdf; ComponentLink2Description: Mouser Link; ComponentLink2URL: https://br.mouser.com/ProductDetail/Coilcraft/XAL5030-332MEB?qs=VJjuEbE9QBML1BhYSWqvXA%3D%3D
footprint XAL0402
pins: 1, 2

## XAL5030-332MEB
designator L?, comment 3.3 uH
IND FIXED 3.3uH 8.1A 23.3mOHM; Manufacturer: Coilcraft; Part Number: XAL5030-332MEB; DC Resistance (DCR): 23.3 mOhms; Inductance Frequency - Test: 1 MHz; Material - Core: Composite; Shielding: Shielded; Tolerance: 20 %; Library Control - Checked Footprint: Yes; Library Control - Person that Checked Footprint: Raquel; Library Control - Person that did the Last Update Footprint: Dimas; Category: Fixed Inductors; Current Rating (Amps): 8.1 A; Frequency - Self Resonant: -; Library Ref: Inductor; Operating Temperature: - 40C ~ 125C; Package / Case: SMD/SMT; Price: 1=1,76, 10=1,75, 100=1,66 (USD); Q @ Freq: -; Size / Dimension: 5.28 mm x 3.1 mm x 5.48 mm; Supplier 1: Mouser; Supplier Part Number 1: 994-XAL5030-332MEB; Type: Fixed; Value: 3.3 uH; Library Control - Last Project that Used: -; Library Control - Last Update: 16/06/21; Library Control - Person that Checked Schematic: Raquel; Library Control - Person that did the Last Update Schematic: Dimas; ComponentLink1Description: Datasheet; ComponentLink1URL: https://br.mouser.com/datasheet/2/597/xal50xx-270657.pdf; ComponentLink2Description: Mouser Link; ComponentLink2URL: https://br.mouser.com/ProductDetail/Coilcraft/XAL5030-332MEB?qs=VJjuEbE9QBML1BhYSWqvXA%3D%3D
footprint XAL5030
pins: 1, 2